# EAGLE library part HEADER-2X12P (library Deegou_Connector)
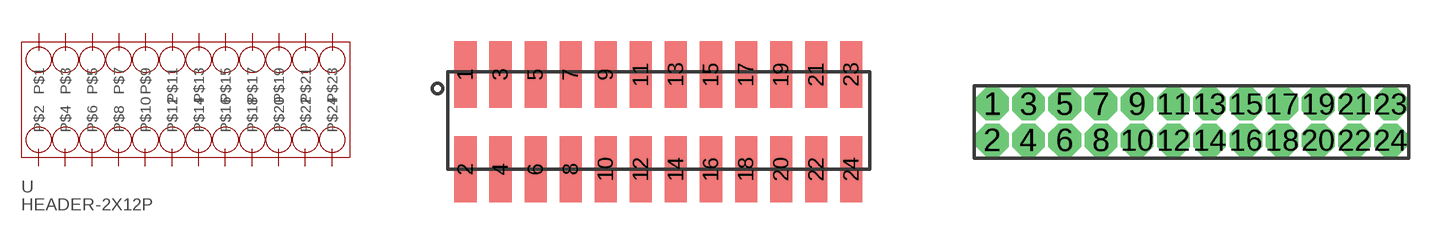
[diagram p54: symbol with the pads of 2X12P-1.27-SMD; footprints 2X12P-1.27-SMD, 2X12P-1.27]

Designator prefix -

## HEADER-2X12P-1.27-SMD  [2X12P-1.27-SMD]
1  P$1
2  P$2
3  P$3
4  P$4
5  P$5
6  P$6
7  P$7
8  P$8
9  P$9
10  P$10
11  P$11
12  P$12
13  P$13
14  P$14
15  P$15
16  P$16
17  P$17
18  P$18
19  P$19
20  P$20
21  P$21
22  P$22
23  P$23
24  P$24

## HEADER-2X12P1.27  [2X12P-1.27]
Pads as for 2X12P-1.27-SMD

## HEADER-2X12P  [2X12P-1.27-90D]
Pads as for 2X12P-1.27-SMD

## Footprint 2X12P-1.27-SMD (pad centres in mm)
smd 0.8 x 2.4: 1 0.635,3.43; 2 0.635,0; 3 1.905,3.43; 4 1.905,0; 5 3.175,3.43; 6 3.175,0; 7 4.445,3.43; 8 4.445,0; 9 5.715,3.43; 10 5.715,0; 11 6.985,3.43; 12 6.985,0; 13 8.255,3.43; 14 8.255,0; 15 9.525,3.43; 16 9.525,0; 17 10.795,3.43; 18 10.795,0; 19 12.065,3.43; 20 12.065,0; 21 13.335,3.43; 22 13.335,0; 23 14.605,3.43; 24 14.605,0

## Footprint 2X12P-1.27 (pad centres in mm)
drill 0.635 pad 1.016 octagon: 1 0.635,1.905; 2 0.635,0.635; 3 1.905,1.905; 4 1.905,0.635; 5 3.175,1.905; 6 3.175,0.635; 7 4.445,1.905; 8 4.445,0.635; 9 5.715,1.905; 10 5.715,0.635; 11 6.985,1.905; 12 6.985,0.635; 13 8.255,1.905; 14 8.255,0.635; 15 9.525,1.905; 16 9.525,0.635; 17 10.795,1.905; 18 10.795,0.635; 19 12.065,1.905; 20 12.065,0.635; 21 13.335,1.905; 22 13.335,0.635; 23 14.605,1.905; 24 14.605,0.635

## Footprint 2X12P-1.27-90D (pad centres in mm)
drill 0.635 pad 1.016 octagon: 1 0.635,1.905; 2 0.635,0.635; 3 1.905,1.905; 4 1.905,0.635; 5 3.175,1.905; 6 3.175,0.635; 7 4.445,1.905; 8 4.445,0.635; 9 5.715,1.905; 10 5.715,0.635; 11 6.985,1.905; 12 6.985,0.635; 13 8.255,1.905; 14 8.255,0.635; 15 9.525,1.905; 16 9.525,0.635; 17 10.795,1.905; 18 10.795,0.635; 19 12.065,1.905; 20 12.065,0.635; 21 13.335,1.905; 22 13.335,0.635; 23 14.605,1.905; 24 14.605,0.635